# Altium footprint library CONNECTOR.PCBLIB: 232 footprints (part 5 of 15)
Each footprint in its own frame and in the unit in brackets; x right, y up, seen from the top. Pads: shape width x height; smd on the part's side, far side on the other; paste and mask are expansions set on the pad; w line width, h text height; cw(c..) or ccw(c..) is an arc to the next point about the centre after c.
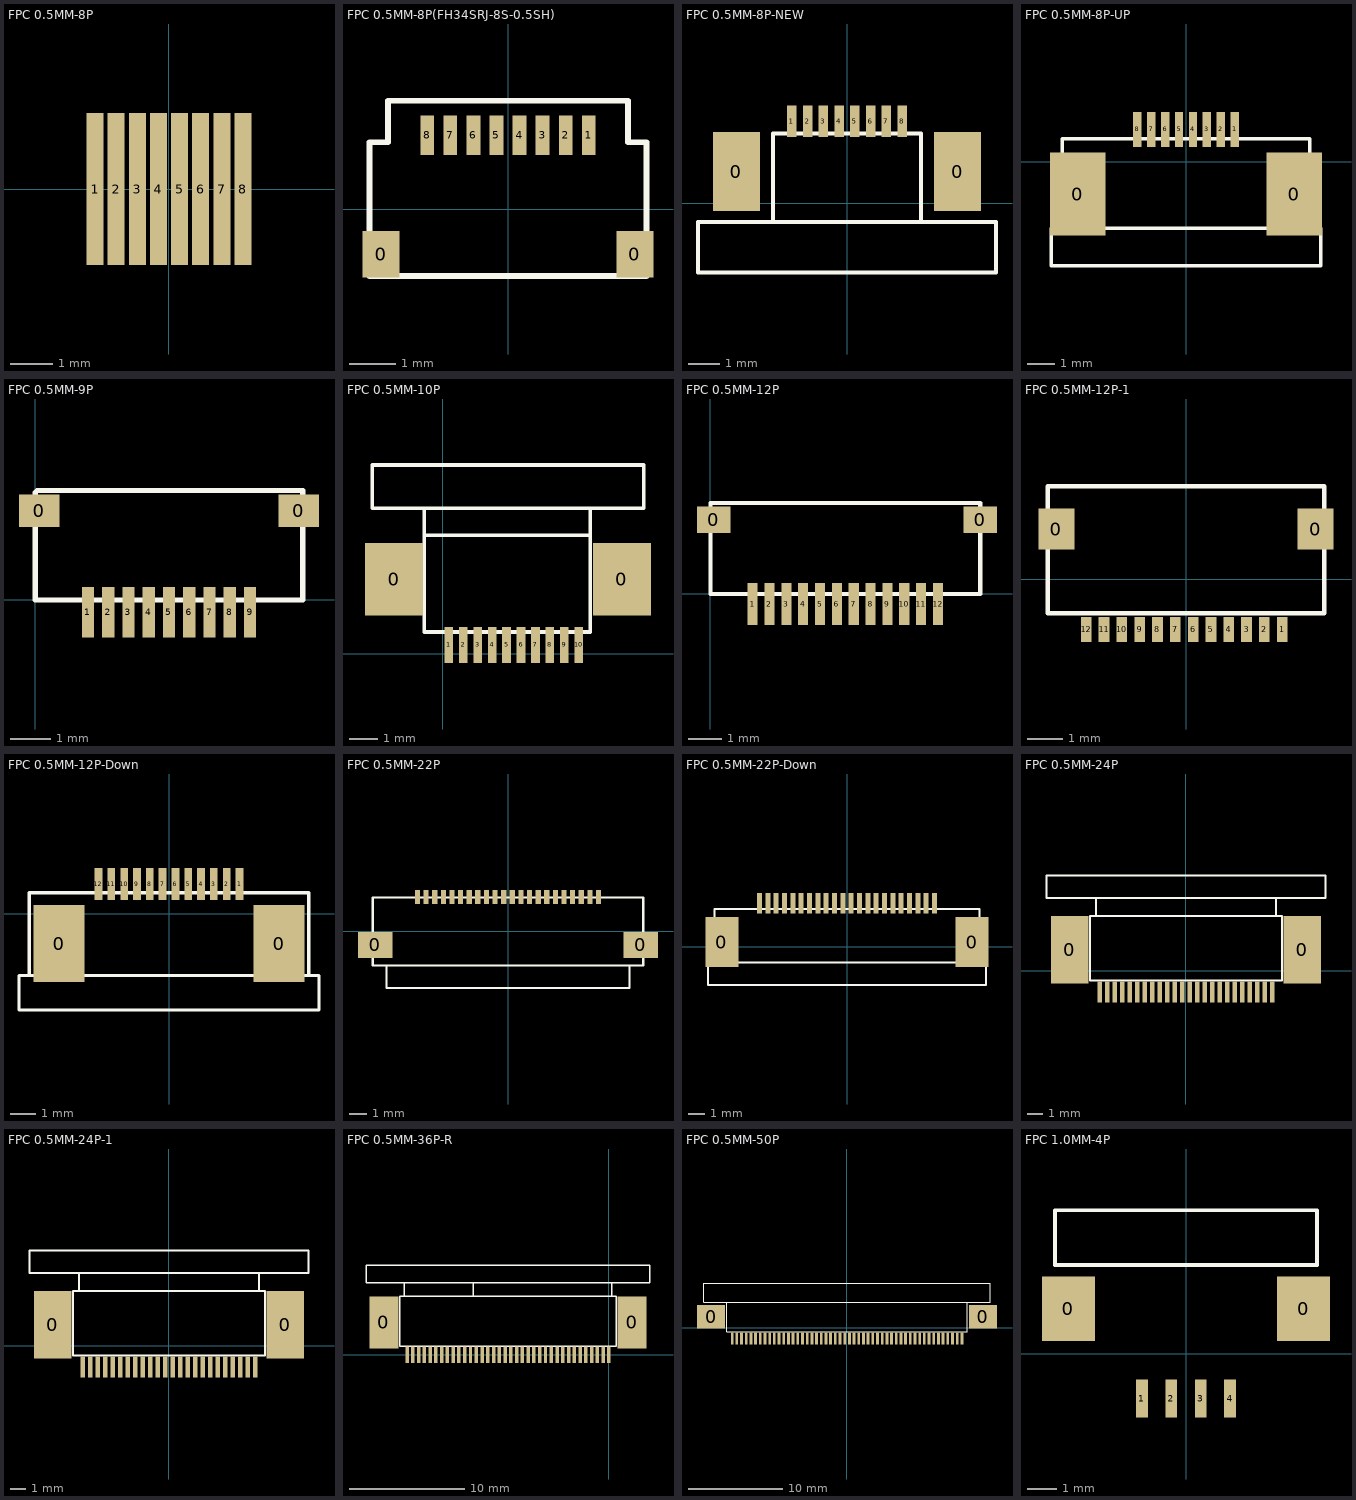
[diagram p4: the footprints below, top view; thin cyan lines are the x and y axes]

## FPC 0.5MM-8P [mm] "FPC 0.5MM-8P"
pads (8):
  rect 0.4x3.6 smd mask+0.05: 1(-1.75,0) 2(-1.25,0) 3(-0.75,0) 4(-0.25,0) 5(0.25,0) 6(0.75,0) 7(1.25,0) 8(1.75,0)

## FPC 0.5MM-8P(FH34SRJ-8S-0.5SH) [mm] "FPC 0.5MM-8P(FH34SRJ-8S-0.5SH)"
pads (10):
  rect 0.8x1 smd mask+0.05: 0(-2.75,-0.975) 0(2.75,-0.975)
  rect 0.3x0.85 smd mask+0.05: 1(1.75,1.6) 2(1.25,1.6) 3(0.75,1.6) 4(0.25,1.6) 5(-0.25,1.6) 6(-0.75,1.6) 7(-1.25,1.6) 8(-1.75,1.6)
TopOverlay:
  lines w0.127: -3,-1.45 -3,1.45 -2.6,1.45 -2.6,2.35 2.6,2.35 2.6,1.45 3,1.45 3,-1.45 -3,-1.45

## FPC 0.5MM-8P-NEW [mm] "FPC 0.5MM-8P-NEW"
pads (10):
  rect 1.5x2.5 smd mask+0.05: 0(-3.5,1) 0(3.5,1)
  rect 0.3x1 smd mask+0.05: 1(-1.75,2.6) 2(-1.25,2.6) 3(-0.75,2.6) 4(-0.25,2.6) 5(0.25,2.6) 6(0.75,2.6) 7(1.25,2.6) 8(1.75,2.6)
TopOverlay:
  lines w0.127: -2.35,-0.6 -2.35,2.2 2.35,2.2 2.35,-0.6 ; -4.715,-2.2 4.715,-2.2 4.715,-0.6 -4.715,-0.6 -4.715,-2.2

## FPC 0.5MM-8P-UP [mm] "FPC 0.5MM-8P-UP"
pads (10):
  rect 2x3 smd mask+0.05: 0(-3.9,-1.162) 0(3.9,-1.162)
  rect 0.3x1.25 smd mask+0.05: 1(1.75,1.162) 2(1.25,1.162) 3(0.75,1.162) 4(0.25,1.162) 5(-0.25,1.162) 6(-0.75,1.162) 7(-1.25,1.162) 8(-1.75,1.162)
TopOverlay:
  lines w0.127: -4.45,-2.4 -4.45,0.825 4.45,0.825 4.45,-2.4 ; -4.85,-3.75 -4.85,-2.4 4.85,-2.4 4.85,-3.75 -4.85,-3.75

## FPC 0.5MM-9P [mm] "FPC 0.5MM-9P"
pads (11):
  rect 1x0.8 smd mask+0.05: 0(0.1,2.2) 0(6.5,2.2)
  rect 0.3x1.25 smd mask+0.05: 1(1.3,-0.3) 2(1.8,-0.3) 3(2.3,-0.3) 4(2.8,-0.3) 5(3.3,-0.3) 6(3.8,-0.3) 7(4.3,-0.3) 8(4.8,-0.3) 9(5.3,-0.3)
TopOverlay:
  lines w0.127: 0,2.65 0,0 6.55,0 ; 0.05,2.7 6.6,2.7 6.6,0

## FPC 0.5MM-10P [mm]
pads (12):
  rect 2x2.5 smd: 0(-1.69,2.575) 0(6.19,2.575)
  rect 0.3x1.25 smd: 1(0.2,0.3) 2(0.7,0.3) 3(1.2,0.3) 4(1.7,0.3) 5(2.2,0.3) 6(2.7,0.3) 7(3.2,0.3) 8(3.7,0.3) 9(4.2,0.3) 10(4.7,0.3)
TopOverlay:
  lines w0.127: -0.65,4.1 5.1,4.1 ; -0.65,5 -0.65,0.75 5.1,0.75 5.1,5 ; 2.25,0 2.25,0.75 ; -2.45,5.025 6.95,5.025 6.95,6.525 -2.45,6.525 -2.45,5.025

## FPC 0.5MM-12P [mm] "FPC 0.5MM-12P"
pads (14):
  rect 1x0.8 smd mask+0.05: 0(0.1,2.2) 0(8,2.2)
  rect 0.3x1.25 smd mask+0.05: 1(1.25,-0.3) 2(1.75,-0.3) 3(2.25,-0.3) 4(2.75,-0.3) 5(3.25,-0.3) 6(3.75,-0.3) 7(4.25,-0.3) 8(4.75,-0.3) 9(5.25,-0.3) 10(5.75,-0.3) 11(6.25,-0.3) 12(6.75,-0.3)
TopOverlay:
  lines w0.127: 0,2.65 0,0 8,0 8,2.7 0,2.7

## FPC 0.5MM-12P-1 [mm] "FPC 0.5MM-12P-1"
pads (14):
  rect 1x1.15 smd mask+0.05: 0(-3.635,1.405) 0(3.635,1.405)
  rect 0.3x0.7 smd mask+0.05: 1(2.7,-1.405) 2(2.2,-1.405) 3(1.7,-1.405) 4(1.2,-1.405) 5(0.7,-1.405) 6(0.2,-1.405) 7(-0.3,-1.405) 8(-0.8,-1.405) 9(-1.3,-1.405) 10(-1.8,-1.405) 11(-2.3,-1.405) 12(-2.8,-1.405)
TopOverlay:
  lines w0.127: -3.885,-0.95 3.885,-0.95 3.885,2.61 -3.885,2.61 -3.885,-0.95

## FPC 0.5MM-12P-Down [mm] "FPC 0.5MM-12P-Down"
pads (14):
  rect 2x3 smd mask+0.05: 0(-4.29,-1.162) 0(4.29,-1.162)
  rect 0.3x1.25 smd mask+0.05: 1(2.75,1.162) 2(2.25,1.162) 3(1.75,1.162) 4(1.25,1.162) 5(0.75,1.162) 6(0.25,1.162) 7(-0.25,1.162) 8(-0.75,1.162) 9(-1.25,1.162) 10(-1.75,1.162) 11(-2.25,1.162) 12(-2.75,1.162)
TopOverlay:
  lines w0.127: -5.45,-2.4 -5.45,0.825 5.45,0.825 5.45,-2.4 ; -5.85,-3.75 5.85,-3.75 5.85,-2.4 -5.85,-2.4 -5.85,-3.75

## FPC 0.5MM-22P [mm] "FPC 0.5MM-22P"
pads (24):
  rect 2x1.5 smd mask+0.05: 0(-7.7,-0.775) 0(7.7,-0.775)
  rect 0.3x0.8 smd mask+0.05: 1(5.25,2) 2(4.75,2) 3(4.25,2) 4(3.75,2) 5(3.25,2) 6(2.75,2) 7(2.25,2) 8(1.75,2) 9(1.25,2) 10(0.75,2) 11(0.25,2) 12(-0.25,2) 13(-0.75,2) 14(-1.25,2) 15(-1.75,2) 16(-2.25,2) 17(-2.75,2) 18(-3.25,2) 19(-3.75,2) 20(-4.25,2) 21(-4.75,2) 22(-5.25,2)
TopOverlay:
  lines w0.127: -7.05,-1.975 -7.05,-3.275 7.05,-3.275 7.05,-1.975 ; -7.85,-1.975 -7.85,1.975 7.85,1.975 7.85,-1.975 -7.85,-1.975

## FPC 0.5MM-22P-Down [mm] "FPC 0.5MM-22P-Down"
pads (24):
  rect 2x3 smd mask+0.05: 0(-7.5,0.288) 0(7.5,0.288)
  rect 0.3x1.25 smd mask+0.05: 1(5.25,2.613) 2(4.75,2.613) 3(4.25,2.613) 4(3.75,2.613) 5(3.25,2.613) 6(2.75,2.613) 7(2.25,2.613) 8(1.75,2.613) 9(1.25,2.613) 10(0.75,2.613) 11(0.25,2.613) 12(-0.25,2.613) 13(-0.75,2.613) 14(-1.25,2.613) 15(-1.75,2.613) 16(-2.25,2.613) 17(-2.75,2.613) 18(-3.25,2.613) 19(-3.75,2.613) 20(-4.25,2.613) 21(-4.75,2.613) 22(-5.25,2.613)
TopOverlay:
  lines w0.127: -7.95,-0.95 -7.95,2.275 7.95,2.275 7.95,-0.95 ; -8.35,-2.3 8.35,-2.3 8.35,-0.95 -8.35,-0.95 -8.35,-2.3

## FPC 0.5MM-24P [mm]
pads (26):
  rect 2.5x4.5 smd: 0(-7.75,1.4) 0(7.75,1.4)
  rect 0.3x1.4 smd: 1(-5.75,-1.4) 2(-5.25,-1.4) 3(-4.75,-1.4) 4(-4.25,-1.4) 5(-3.75,-1.4) 6(-3.25,-1.4) 7(-2.75,-1.4) 8(-2.25,-1.4) 9(-1.75,-1.4) 10(-1.25,-1.4) 11(-0.75,-1.4) 12(-0.25,-1.4) 13(0.25,-1.4) 14(0.75,-1.4) 15(1.25,-1.4) 16(1.75,-1.4) 17(2.25,-1.4) 18(2.75,-1.4) 19(3.25,-1.4) 20(3.75,-1.4) 21(4.25,-1.4) 22(4.75,-1.4) 23(5.25,-1.4) 24(5.75,-1.4)
TopOverlay:
  lines w0.127: -6,3.65 -6,4.85 ; 6,3.65 6,4.85 ; -9.3,4.85 -9.3,6.35 9.3,6.35 9.3,4.85 -9.3,4.85 ; -6.4,-0.65 -6.4,3.65 6.4,3.65 6.4,-0.65 -6.4,-0.65

## FPC 0.5MM-24P-1 [mm]
pads (26):
  rect 2.5x4.5 smd: 0(-7.75,1.4) 0(7.75,1.4)
  rect 0.3x1.4 smd: 1(5.75,-1.4) 2(5.25,-1.4) 3(4.75,-1.4) 4(4.25,-1.4) 5(3.75,-1.4) 6(3.25,-1.4) 7(2.75,-1.4) 8(2.25,-1.4) 9(1.75,-1.4) 10(1.25,-1.4) 11(0.75,-1.4) 12(0.25,-1.4) 13(-0.25,-1.4) 14(-0.75,-1.4) 15(-1.25,-1.4) 16(-1.75,-1.4) 17(-2.25,-1.4) 18(-2.75,-1.4) 19(-3.25,-1.4) 20(-3.75,-1.4) 21(-4.25,-1.4) 22(-4.75,-1.4) 23(-5.25,-1.4) 24(-5.75,-1.4)
TopOverlay:
  lines w0.127: -6,3.65 -6,4.85 ; 6,3.65 6,4.85 ; -9.3,4.85 -9.3,6.35 9.3,6.35 9.3,4.85 -9.3,4.85 ; -6.4,-0.65 -6.4,3.65 6.4,3.65 6.4,-0.65 -6.4,-0.65

## FPC 0.5MM-36P-R [mm]
pads (38):
  rect 2.5x4.5 smd: 0(-19.5,2.8) 0(2,2.8)
  rect 0.3x1.4 smd: 1(0,0) 2(-0.5,0) 3(-1,0) 4(-1.5,0) 5(-2,0) 6(-2.5,0) 7(-3,0) 8(-3.5,0) 9(-4,0) 10(-4.5,0) 11(-5,0) 12(-5.5,0) 13(-6,0) 14(-6.5,0) 15(-7,0) 16(-7.5,0) 17(-8,0) 18(-8.5,0) 19(-9,0) 20(-9.5,0) 21(-10,0) 22(-10.5,0) 23(-11,0) 24(-11.5,0) 25(-12,0) 26(-12.5,0) 27(-13,0) 28(-13.5,0) 29(-14,0) 30(-14.5,0) 31(-15,0) 32(-15.5,0) 33(-16,0) 34(-16.5,0) 35(-17,0) 36(-17.5,0)
TopOverlay:
  lines w0.127: -17.75,5.05 -17.75,6.25 ; -11.75,5.05 -11.75,6.25 ; 0.25,5.05 0.25,6.25 ; -21.05,6.25 3.55,6.25 3.55,7.75 -21.05,7.75 -21.05,6.25 ; -18.15,0.75 0.65,0.75 0.65,5.05 -18.15,5.05 -18.15,0.75

## FPC 0.5MM-50P [mm] "FPC 0.5MM-50P"
pads (52):
  rect 3x2.5 smd: 0(-14.5,1.175) 0(14.5,1.175)
  rect 0.3x1.3 smd: 1(-12.25,-1.175) 2(-11.75,-1.175) 3(-11.25,-1.175) 4(-10.75,-1.175) 5(-10.25,-1.175) 6(-9.75,-1.175) 7(-9.25,-1.175) 8(-8.75,-1.175) 9(-8.25,-1.175) 10(-7.75,-1.175) 11(-7.25,-1.175) 12(-6.75,-1.175) 13(-6.25,-1.175) 14(-5.75,-1.175) 15(-5.25,-1.175) 16(-4.75,-1.175) 17(-4.25,-1.175) 18(-3.75,-1.175) 19(-3.25,-1.175) 20(-2.75,-1.175) 21(-2.25,-1.175) 22(-1.75,-1.175) 23(-1.25,-1.175) 24(-0.75,-1.175) 25(-0.25,-1.175) 26(0.25,-1.175) 27(0.75,-1.175) 28(1.25,-1.175) 29(1.75,-1.175) 30(2.25,-1.175) 31(2.75,-1.175) 32(3.25,-1.175) 33(3.75,-1.175) 34(4.25,-1.175) 35(4.75,-1.175) 36(5.25,-1.175) 37(5.75,-1.175) 38(6.25,-1.175) 39(6.75,-1.175) 40(7.25,-1.175) 41(7.75,-1.175) 42(8.25,-1.175) 43(8.75,-1.175) 44(9.25,-1.175) 45(9.75,-1.175) 46(10.25,-1.175) 47(10.75,-1.175) 48(11.25,-1.175) 49(11.75,-1.175) 50(12.25,-1.175)
TopOverlay:
  lines w0.127: -12.9,2.725 7.9,2.725 ; -12.8,2.725 -12.8,-0.425 12.8,-0.425 12.8,2.725 ; -15.3,2.725 -15.3,4.725 15.3,4.725 15.3,2.725 -15.3,2.725

## FPC 1.0MM-4P [mm] "FPC 1.0MM-4P"
pads (6):
  rect 1.8x2.2 smd: 0(-4,1.525) 0(4,1.525)
  rect 0.4x1.3 smd: 1(-1.5,-1.525) 2(-0.5,-1.525) 3(0.5,-1.525) 4(1.5,-1.525)
TopOverlay:
  lines w0.127: -4.45,3.015 -4.45,4.875 4.45,4.875 4.45,3.015 -4.45,3.015